# EAGLE library part 4062XLH240 (library XILINX)
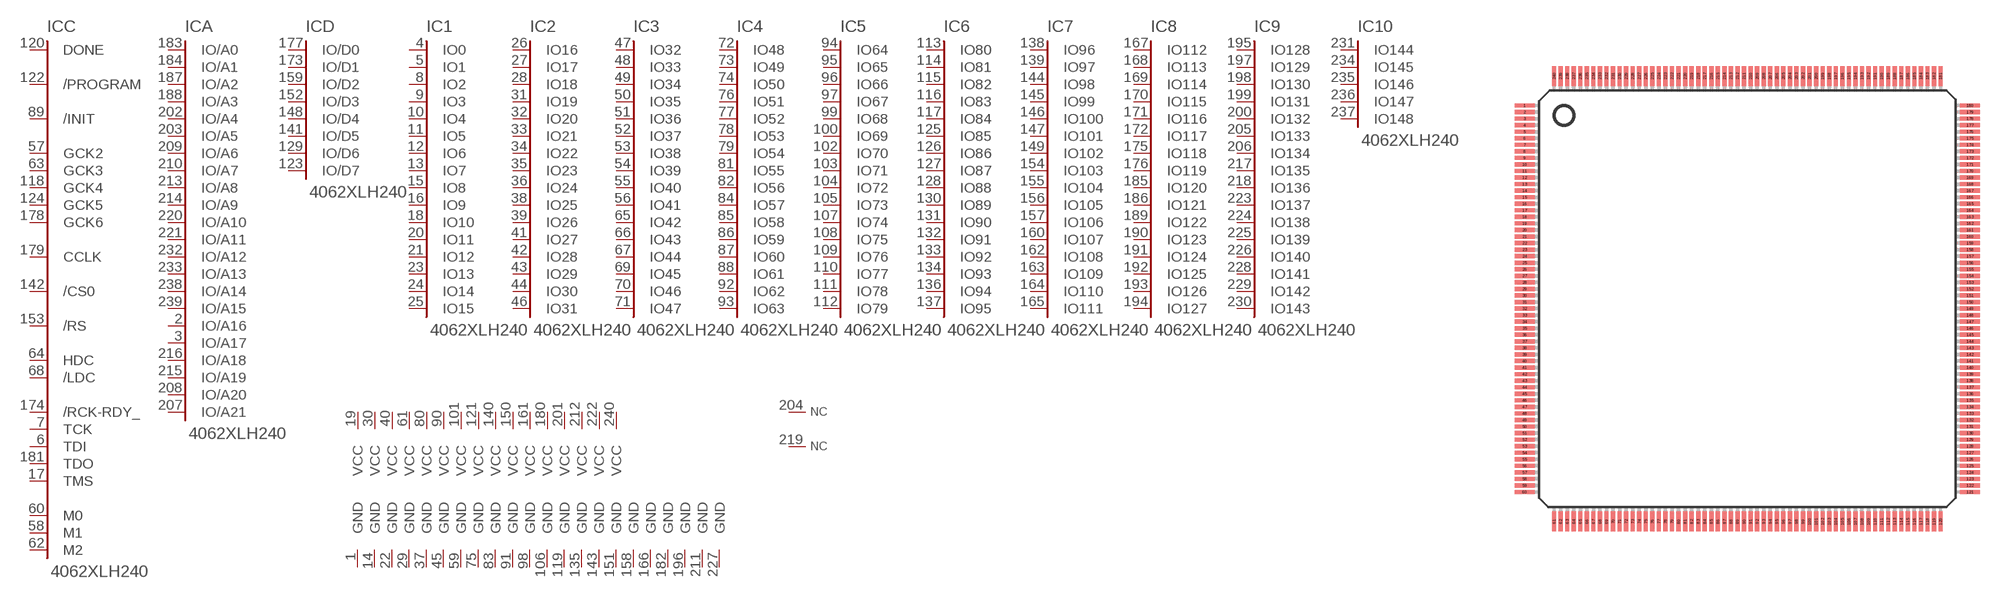
[diagram p56: symbol with the pads of PQ240; footprint PQ240]

Designator prefix IC; gates C=XC4-C-84 A=XC4-A D=XC4-D 1=XC4-IO16 2=XC4-IO32 3=XC4-IO48 4=XC4-IO64 5=XC4-IO80 6=XC4-IO96 7=XC4IO112 8=XC4IO128 9=XC4IO144 V1=VCC V2=VCC V3=VCC V4=VCC V5=VCC V6=VCC V7=VCC V8=VCC V9=VCC V10=VCC V11=VCC V12=VCC V13=VCC V14=VCC V15=VCC V16=VCC G1=GND G2=GND G3=GND G4=GND G5=GND G6=GND G7=GND G8=GND G9=GND G10=GND G11=GND G12=GND G13=GND G14=GND G15=GND G16=GND G17=GND G18=GND G19=GND G20=GND G21=GND G22=GND N1=NC N2=NC 10=XC4IO148

## 4062XLH240  [PQ240]
1  G1:GND  pwr
2  A:IO/A16
3  A:IO/A17
4  1:IO0
5  1:IO1
6  C:TDI
7  C:TCK
8  1:IO2
9  1:IO3
10  1:IO4
11  1:IO5
12  1:IO6
13  1:IO7
14  G2:GND  pwr
15  1:IO8
16  1:IO9
17  C:TMS
18  1:IO10
19  V1:VCC  pwr
20  1:IO11
21  1:IO12
22  G3:GND  pwr
23  1:IO13
24  1:IO14
25  1:IO15
26  2:IO16
27  2:IO17
28  2:IO18
29  G4:GND  pwr
30  V2:VCC  pwr
31  2:IO19
32  2:IO20
33  2:IO21
34  2:IO22
35  2:IO23
36  2:IO24
37  G5:GND  pwr
38  2:IO25
39  2:IO26
40  V3:VCC  pwr
41  2:IO27
42  2:IO28
43  2:IO29
44  2:IO30
45  G6:GND  pwr
46  2:IO31
47  3:IO32
48  3:IO33
49  3:IO34
50  3:IO35
51  3:IO36
52  3:IO37
53  3:IO38
54  3:IO39
55  3:IO40
56  3:IO41
57  C:GCK2
58  C:M1  out
59  G7:GND  pwr
60  C:M0  in
61  V4:VCC  pwr
62  C:M2  in
63  C:GCK3
64  C:HDC
65  3:IO42
66  3:IO43
67  3:IO44
68  C:/LDC
69  3:IO45
70  3:IO46
71  3:IO47
72  4:IO48
73  4:IO49
74  4:IO50
75  G8:GND  pwr
76  4:IO51
77  4:IO52
78  4:IO53
79  4:IO54
80  V5:VCC  pwr
81  4:IO55
82  4:IO56
83  G9:GND  pwr
84  4:IO57
85  4:IO58
86  4:IO59
87  4:IO60
88  4:IO61
89  C:/INIT
90  V6:VCC  pwr
91  G10:GND  pwr
92  4:IO62
93  4:IO63
94  5:IO64
95  5:IO65
96  5:IO66
97  5:IO67
98  G11:GND  pwr
99  5:IO68
100  5:IO69
101  V7:VCC  pwr
102  5:IO70
103  5:IO71
104  5:IO72
105  5:IO73
106  G12:GND  pwr
107  5:IO74
108  5:IO75
109  5:IO76
110  5:IO77
111  5:IO78
112  5:IO79
113  6:IO80
114  6:IO81
115  6:IO82
116  6:IO83
117  6:IO84
118  C:GCK4
119  G13:GND  pwr
120  C:DONE
121  V8:VCC  pwr
122  C:/PROGRAM
123  D:IO/D7
124  C:GCK5
125  6:IO85
126  6:IO86
127  6:IO87
128  6:IO88
129  D:IO/D6
130  6:IO89
131  6:IO90
132  6:IO91
133  6:IO92
134  6:IO93
135  G14:GND  pwr
136  6:IO94
137  6:IO95
138  7:IO96
139  7:IO97
140  V9:VCC  pwr
141  D:IO/D5
142  C:/CS0
143  G15:GND  pwr
144  7:IO98
145  7:IO99
146  7:IO100
147  7:IO101
148  D:IO/D4
149  7:IO102
150  V10:VCC  pwr
151  G16:GND  pwr
152  D:IO/D3
153  C:/RS
154  7:IO103
155  7:IO104
156  7:IO105
157  7:IO106
158  G17:GND  pwr
159  D:IO/D2
160  7:IO107
161  V11:VCC  pwr
162  7:IO108
163  7:IO109
164  7:IO110
165  7:IO111
166  G18:GND  pwr
167  8:IO112
168  8:IO113
169  8:IO114
170  8:IO115
171  8:IO116
172  8:IO117
173  D:IO/D1
174  C:/RCK-RDY_
175  8:IO118
176  8:IO119
177  D:IO/D0
178  C:GCK6
179  C:CCLK
180  V12:VCC  pwr
181  C:TDO
182  G19:GND  pwr
183  A:IO/A0
184  A:IO/A1
185  8:IO120
186  8:IO121
187  A:IO/A2
188  A:IO/A3
189  8:IO122
190  8:IO123
191  8:IO124
192  8:IO125
193  8:IO126
194  8:IO127
195  9:IO128
196  G20:GND  pwr
197  9:IO129
198  9:IO130
199  9:IO131
200  9:IO132
201  V13:VCC  pwr
202  A:IO/A4
203  A:IO/A5
204  N1:NC  nc
205  9:IO133
206  9:IO134
207  A:IO/A21
208  A:IO/A20
209  A:IO/A6
210  A:IO/A7
211  G21:GND  pwr
212  V14:VCC  pwr
213  A:IO/A8
214  A:IO/A9
215  A:IO/A19
216  A:IO/A18
217  9:IO135
218  9:IO136
219  N2:NC  nc
220  A:IO/A10
221  A:IO/A11
222  V15:VCC  pwr
223  9:IO137
224  9:IO138
225  9:IO139
226  9:IO140
227  G22:GND  pwr
228  9:IO141
229  9:IO142
230  9:IO143
231  10:IO144
232  A:IO/A12
233  A:IO/A13
234  10:IO145
235  10:IO146
236  10:IO147
237  10:IO148
238  A:IO/A14
239  A:IO/A15
240  V16:VCC  pwr

## Footprint PQ240 (pad centres in mm)
smd 1.5 x 0.32: 1 -17,14.75; 2 -17,14.25; 3 -17,13.75; 4 -17,13.25; 5 -17,12.75; 6 -17,12.25; 7 -17,11.75; 8 -17,11.25; 9 -17,10.75; 10 -17,10.25; 11 -17,9.75; 12 -17,9.25; 13 -17,8.75; 14 -17,8.25; 15 -17,7.75; 16 -17,7.25; 17 -17,6.75; 18 -17,6.25; 19 -17,5.75; 20 -17,5.25; 21 -17,4.75; 22 -17,4.25; 23 -17,3.75; 24 -17,3.25; 25 -17,2.75; 26 -17,2.25; 27 -17,1.75; 28 -17,1.25; 29 -17,0.75; 30 -17,0.25; 31 -17,-0.25; 32 -17,-0.75; 33 -17,-1.25; 34 -17,-1.75; 35 -17,-2.25; 36 -17,-2.75; 37 -17,-3.25; 38 -17,-3.75; 39 -17,-4.25; 40 -17,-4.75; 41 -17,-5.25; 42 -17,-5.75; 43 -17,-6.25; 44 -17,-6.75; 45 -17,-7.25; 46 -17,-7.75; 47 -17,-8.25; 48 -17,-8.75; 49 -17,-9.25; 50 -17,-9.75; 51 -17,-10.25; 52 -17,-10.75; 53 -17,-11.25; 54 -17,-11.75; 55 -17,-12.25; 56 -17,-12.75; 57 -17,-13.25; 58 -17,-13.75; 59 -17,-14.25; 60 -17,-14.75; 121 17,-14.75; 122 17,-14.25; 123 17,-13.75; 124 17,-13.25; 125 17,-12.75; 126 17,-12.25; 127 17,-11.75; 128 17,-11.25; 129 17,-10.75; 130 17,-10.25; 131 17,-9.75; 132 17,-9.25; 133 17,-8.75; 134 17,-8.25; 135 17,-7.75; 136 17,-7.25; 137 17,-6.75; 138 17,-6.25; 139 17,-5.75; 140 17,-5.25; 141 17,-4.75; 142 17,-4.25; 143 17,-3.75; 144 17,-3.25; 145 17,-2.75; 146 17,-2.25; 147 17,-1.75; 148 17,-1.25; 149 17,-0.75; 150 17,-0.25; 151 17,0.25; 152 17,0.75; 153 17,1.25; 154 17,1.75; 155 17,2.25; 156 17,2.75; 157 17,3.25; 158 17,3.75; 159 17,4.25; 160 17,4.75; 161 17,5.25; 162 17,5.75; 163 17,6.25; 164 17,6.75; 165 17,7.25; 166 17,7.75; 167 17,8.25; 168 17,8.75; 169 17,9.25; 170 17,9.75; 171 17,10.25; 172 17,10.75; 173 17,11.25; 174 17,11.75; 175 17,12.25; 176 17,12.75; 177 17,13.25; 178 17,13.75; 179 17,14.25; 180 17,14.75
smd 0.32 x 1.5: 61 -14.75,-17; 62 -14.25,-17; 63 -13.75,-17; 64 -13.25,-17; 65 -12.75,-17; 66 -12.25,-17; 67 -11.75,-17; 68 -11.25,-17; 69 -10.75,-17; 70 -10.25,-17; 71 -9.75,-17; 72 -9.25,-17; 73 -8.75,-17; 74 -8.25,-17; 75 -7.75,-17; 76 -7.25,-17; 77 -6.75,-17; 78 -6.25,-17; 79 -5.75,-17; 80 -5.25,-17; 81 -4.75,-17; 82 -4.25,-17; 83 -3.75,-17; 84 -3.25,-17; 85 -2.75,-17; 86 -2.25,-17; 87 -1.75,-17; 88 -1.25,-17; 89 -0.75,-17; 90 -0.25,-17; 91 0.25,-17; 92 0.75,-17; 93 1.25,-17; 94 1.75,-17; 95 2.25,-17; 96 2.75,-17; 97 3.25,-17; 98 3.75,-17; 99 4.25,-17; 100 4.75,-17; 101 5.25,-17; 102 5.75,-17; 103 6.25,-17; 104 6.75,-17; 105 7.25,-17; 106 7.75,-17; 107 8.25,-17; 108 8.75,-17; 109 9.25,-17; 110 9.75,-17; 111 10.25,-17; 112 10.75,-17; 113 11.25,-17; 114 11.75,-17; 115 12.25,-17; 116 12.75,-17; 117 13.25,-17; 118 13.75,-17; 119 14.25,-17; 120 14.75,-17; 181 14.75,17; 182 14.25,17; 183 13.75,17; 184 13.25,17; 185 12.75,17; 186 12.25,17; 187 11.75,17; 188 11.25,17; 189 10.75,17; 190 10.25,17; 191 9.75,17; 192 9.25,17; 193 8.75,17; 194 8.25,17; 195 7.75,17; 196 7.25,17; 197 6.75,17; 198 6.25,17; 199 5.75,17; 200 5.25,17; 201 4.75,17; 202 4.25,17; 203 3.75,17; 204 3.25,17; 205 2.75,17; 206 2.25,17; 207 1.75,17; 208 1.25,17; 209 0.75,17; 210 0.25,17; 211 -0.25,17; 212 -0.75,17; 213 -1.25,17; 214 -1.75,17; 215 -2.25,17; 216 -2.75,17; 217 -3.25,17; 218 -3.75,17; 219 -4.25,17; 220 -4.75,17; 221 -5.25,17; 222 -5.75,17; 223 -6.25,17; 224 -6.75,17; 225 -7.25,17; 226 -7.75,17; 227 -8.25,17; 228 -8.75,17; 229 -9.25,17; 230 -9.75,17; 231 -10.25,17; 232 -10.75,17; 233 -11.25,17; 234 -11.75,17; 235 -12.25,17; 236 -12.75,17; 237 -13.25,17; 238 -13.75,17; 239 -14.25,17; 240 -14.75,17